# EAGLE library part 52003 (library magjack)
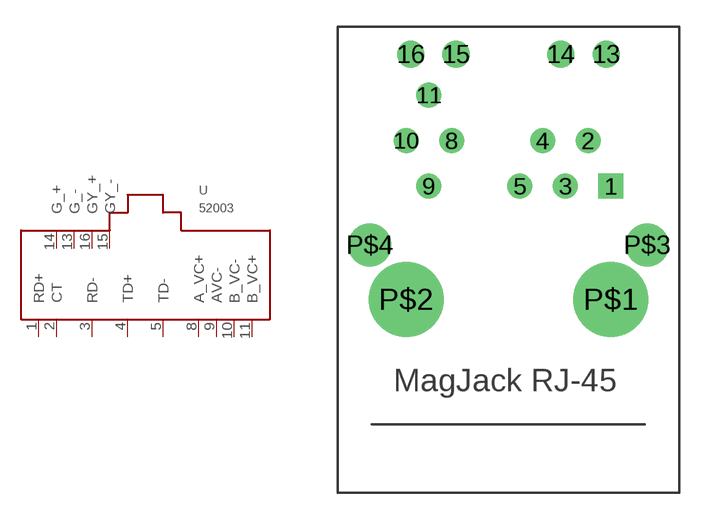
[diagram p0: symbol with the pads of 52003; footprint 52003]

Designator prefix -

## 52003  [52003]
1  RD+
2  CT
3  RD-
4  TD+
5  TD-
8  A_VC+
9  AVC-
10  B_VC-
11  B_VC+
13  G_-
14  G_+
15  GY_-
16  GY_+

## Footprint 52003 (pad centres in mm)
RJ45 with Magnetics
drill 0.889 square: 1 5.715,4.445
drill 0.889 round: 2 4.445,6.985; 3 3.175,4.445; 4 1.905,6.985; 5 0.635,4.445; 8 -3.175,6.985; 9 -4.445,4.445; 10 -5.715,6.985; 11 -4.445,9.525
drill 1.016 round: 13 5.461,11.811; 14 2.921,11.811; 15 -2.921,11.811; 16 -5.461,11.811
drill 3.175 round: P$1 5.715,-1.905; P$2 -5.715,-1.905
drill 1.587 round: P$3 7.747,1.143; P$4 -7.747,1.143